# EAGLE library part IAUC60N04S6L045HATMA1 (library user_tr_fet_igbt)
IAUC60N04S6L045HATMA1 digikey:448-IAUC60N04S6L045HATMA1CT-ND ハーフブリッジNchFET 40V 60A
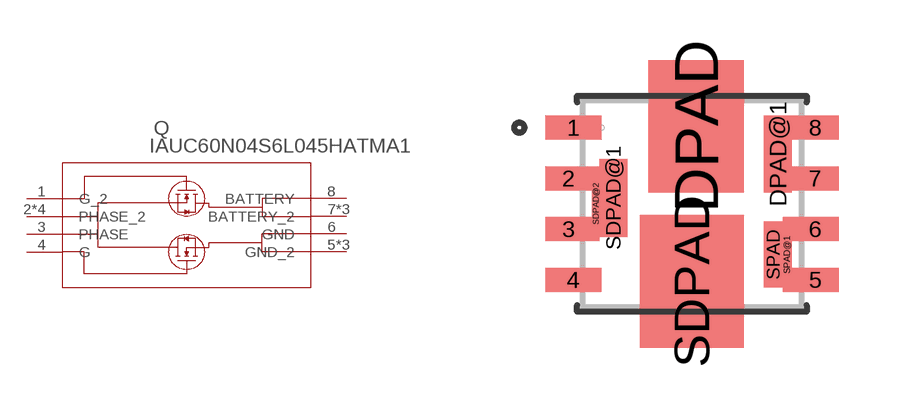
[diagram p2: symbol with the pads of PG-TDSON-8-57; footprint PG-TDSON-8-57]

Designator prefix Q

## IAUC60N04S6L045HATMA1PG-TDSON-8-57 (COPYRIGHT: Copyright (C) 2024 Ultra Librarian. All rights reserved.; MANUFACTURER_PART_NUMBER: IAUC60N04S6L045HATMA1; MFR_NAME: Infineon)  [PG-TDSON-8-57]
1  G_2  pas
2  PHASE_2  pas
3  PHASE  pas
4  G  pas
5  GND_2  pas
6  GND  pas
7  BATTERY_2  pas
8  BATTERY  pas
DPAD  BATTERY_2  pas
DPAD@1  BATTERY_2  pas
SDPAD  PHASE_2  pas
SDPAD@1  PHASE_2  pas
SDPAD@2  PHASE_2  pas
SPAD  GND_2  pas
SPAD@1  GND_2  pas

## Footprint PG-TDSON-8-57 (pad centres in mm)
smd 1.4 x 0.6: 1 -2.97,1.905; 4 -2.97,-1.905
smd 1.17 x 0.6: 2 -3.085,0.635; 3 -3.085,-0.635; 5 3.085,-1.905; 6 3.085,-0.635; 7 3.085,0.635; 8 3.085,1.905
smd 2.39 x 3.315: DPAD 0.105,1.942
smd 0.7 x 1.92: DPAD@1 2.15,1.245
smd 2.6 x 3.315: SDPAD 0,-1.942
smd 0.7 x 1.95: SDPAD@1 -1.96,0.15
smd 0.19 x 1.87: SDPAD@2 -2.405,0
smd 0.47 x 1.65: SPAD 2.035,-1.27
smd 0.23 x 1.87: SPAD@1 2.385,-1.27